# Altium integrated library Linear Technology PMIC-Switching Reg LTC1174-LTC3901.IntLib: 2647 symbols (part 75 of 310)
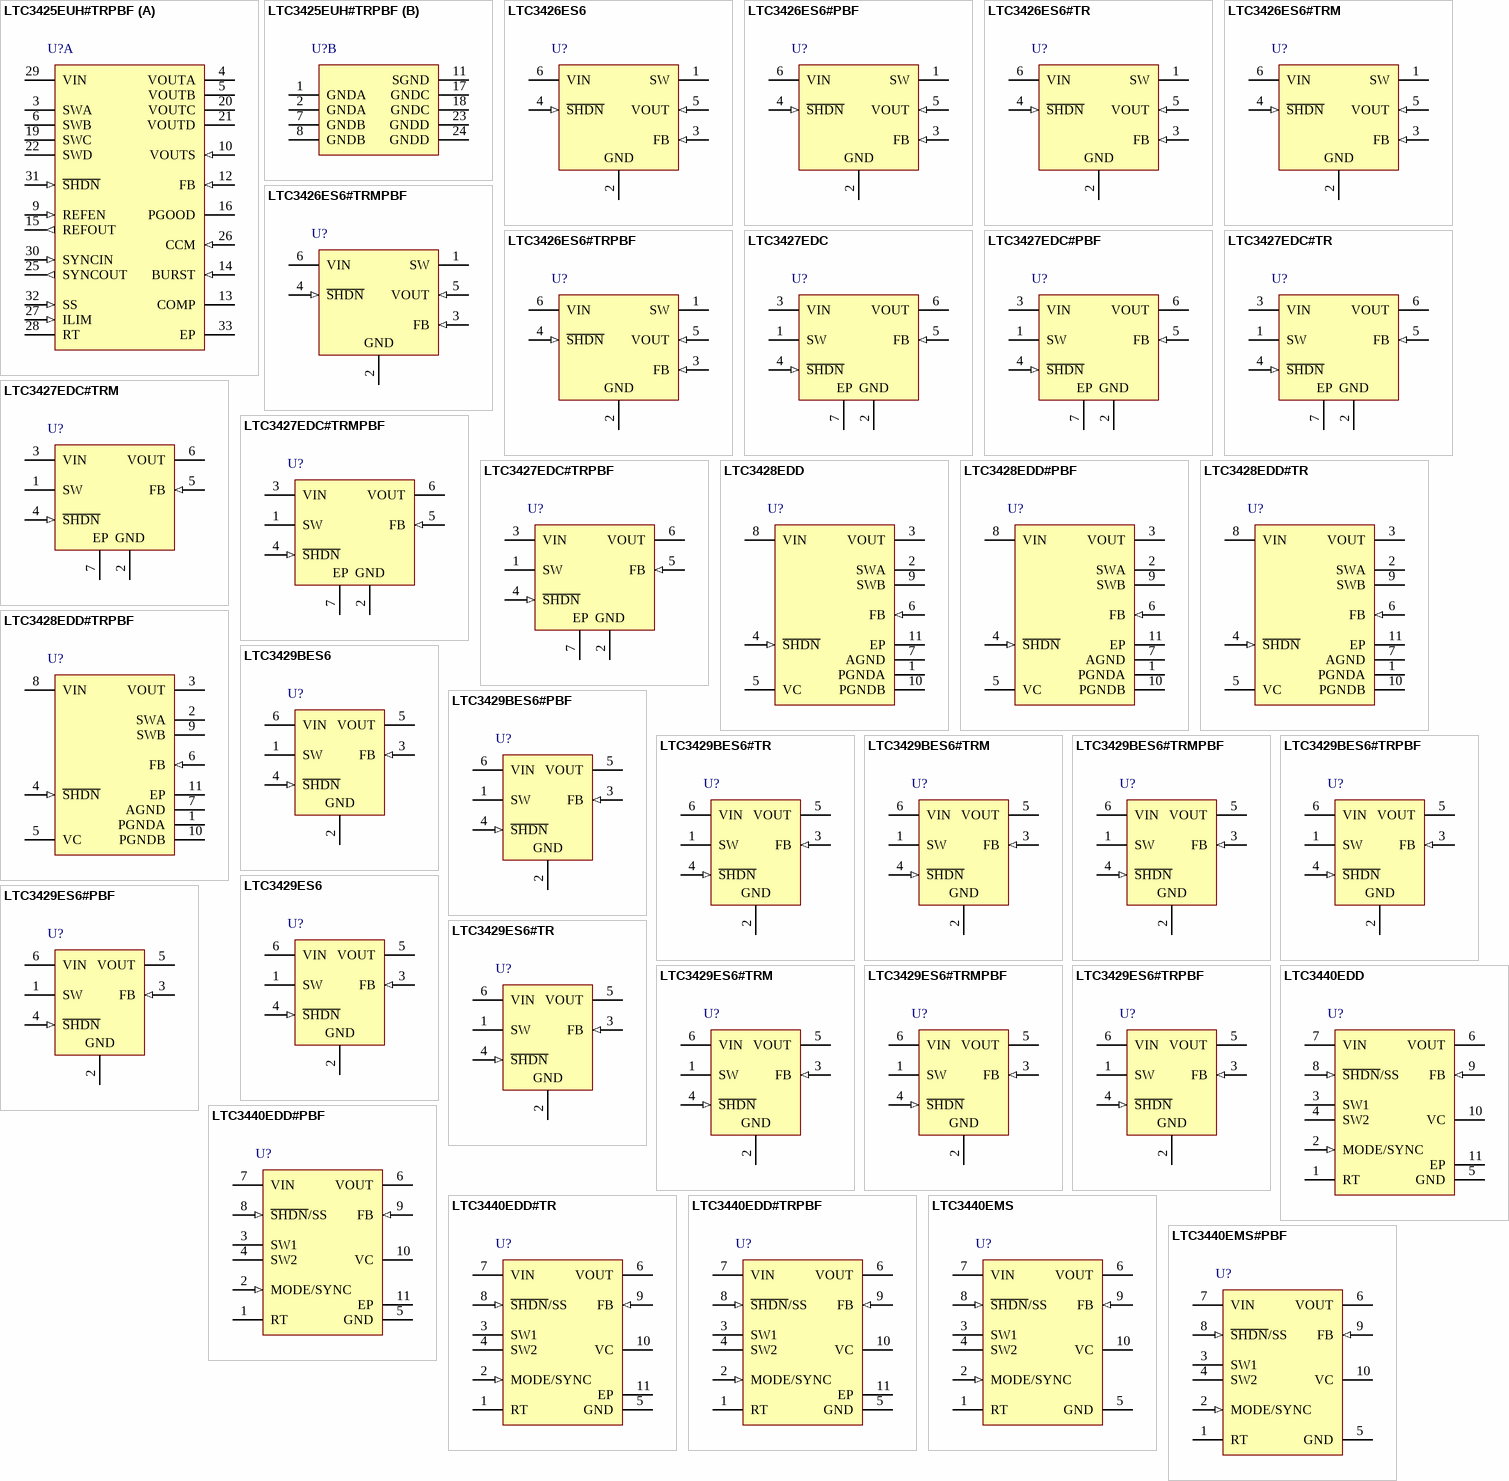
[diagram p258: symbols LTC3425EUH#TRPBF to LTC3440EMS#PBF]

## LTC3440EDD#TRPBF
designator U?
Micropower Synchronous Buck-Boost DC/DC Converter, 10-pin SON (DD-10), -40 to 85 degC, Pb-Free, Tape and Reel; Manufacturer: Linear Technology; PartNumber: LTC3440EDD#TRPBF; Number of Outputs: 1; PackageReference: DD-10; PackageDescription: 10-Pin Plastic DFN, Body 3 x 3 mm, Pitch 0.5 mm; Supplier 1: Digi-Key; Supplier Part Number 1: LTC3440EDD#TRPBF-ND; RoHS: TRUE; Code_JEDEC: MO-229
footprint LT-DD-10_V (SON, 10-Leads, Body 3x3mm, Pitch 0.5mm, Thermal Pad 2.38x1.65mm)
pins: 1 RT "Timing Resistor to Program the Oscillator Frequency. The programming frequency range is 300kHz to 2MHz.", 2 MODE/SYNC (in) "MODE/SYNC = External CLK : Synchronization of the internal oscillator. A clock frequency of twice the desired switching frequency and with a pulse width between 100ns and 2us is applied. The oscillator free running frequency (See Datasheet)", 3 SW1 "Switch Pin Where the Internal Switches A and B are Connected. Connect inductor from SW1 to SW2. An optional Schottky diode can be connected from SW1 to ground. Minimize trace length to keep EMI down.", 4 SW2 "Switch Pin Where the Internal Switches C and D are Connected. For applications with output voltages over 4.3V, a Schottky diode is required from SW2 to VOUT to ensure the SW pin does not exhibit excess voltage.", 5 GND (power) "Signal and Power Ground for the IC.", 6 VOUT (power) "Output of the Synchronous Rectifier. A filtercapacitor is placed from VOUT to GND.", 7 VIN (power) "Input Supply Pin. Internal VCC for the IC. A ceramic bypass capacitor as close to the VIN pin and GND (Pin 5) is required.", 8 ~{SHDN}/SS (in) "Combined Soft-Start and Shutdown. Grounding this pin shuts down the IC. Tie to >1.5V to enable the IC and > 2.5V to ensure the error amp is not clamped from soft-start. An RC from the shutdown command signal to this pin will (See Datasheet)", 9 FB (in) "Feedback Pin. Connect resistor divider tap here. The output voltage can be adjusted from 2.5V to 5.5V. The feedback reference voltage is typically 1.22V.", 10 VC "Error Amp Output. A frequency compensation network is connected from this pin to the FB pin to compensate the loop. See the section “Compensating the Feedback Loop” for guidelines.", 11 EP (power) "Ground. This pin must be soldered to the PCB and electrically connected to ground."

## LTC3440EMS
designator U?
Micropower Synchronous Buck-Boost DC/DC Converter, 10-pin SOP (MS-10), -40 to 85 degC; Manufacturer: Linear Technology; PartNumber: LTC3440EMS; Number of Outputs: 1; PackageReference: MS-10; PackageDescription: 10-Pin Plastic MSOP, Body 3 x 3 mm, Pitch 0.5 mm; Supplier 1: Digi-Key; Supplier Part Number 1: LTC3440EMS-ND; RoHS: FALSE
footprint LT-MS-10_N (SOP, 10-Leads, Body 3.1x3.1mm, Pitch 0.5mm, IPC Medium Density)
footprint LT-MS-10_L (SOP, 10-Leads, Body 3.1x3.1mm, Pitch 0.5mm, IPC High Density)
footprint LT-MS-10_M (SOP, 10-Leads, Body 3.1x3.1mm, Pitch 0.5mm, IPC Low Density)
pins: 1 RT "Timing Resistor to Program the Oscillator Frequency. The programming frequency range is 300kHz to 2MHz.", 2 MODE/SYNC (in) "MODE/SYNC = External CLK : Synchronization of the internal oscillator. A clock frequency of twice the desired switching frequency and with a pulse width between 100ns and 2us is applied. The oscillator free running frequency (See Datasheet)", 3 SW1 "Switch Pin Where the Internal Switches A and B are Connected. Connect inductor from SW1 to SW2. An optional Schottky diode can be connected from SW1 to ground. Minimize trace length to keep EMI down.", 4 SW2 "Switch Pin Where the Internal Switches C and D are Connected. For applications with output volt-ages over 4.3V, a Schottky diode is required from SW2 to VOUT to ensure the SW pin does not exhibit excess voltage.", 5 GND (power) "Signal and Power Ground for the IC.", 6 VOUT (power) "Output of the Synchronous Rectifier. A filtercapacitor is placed from VOUT to GND.", 7 VIN (power) "Input Supply Pin. Internal VCC for the IC. A ceramic bypass capacitor as close to the VIN pin and GND (Pin 5) is required.", 8 ~{SHDN}/SS (in) "Combined Soft-Start and Shutdown. Grounding this pin shuts down the IC. Tie to >1.5V to enable the IC and > 2.5V to ensure the error amp is not clamped from soft-start. An RC from the shutdown command signal to this pin will (See Datasheet)", 9 FB (in) "Feedback Pin. Connect resistor divider tap here. The output voltage can be adjusted from 2.5V to 5.5V. The feedback reference voltage is typically 1.22V.", 10 VC "Error Amp Output. A frequency compensation network is connected from this pin to the FB pin to compensate the loop. See the section “Compensating the Feedback Loop” for guidelines."